# Altium footprint library SOP4.PcbLib: 1 footprints
Each footprint in its own frame and in the unit in brackets; x right, y up, seen from the top. Pads: shape width x height; smd on the part's side, far side on the other; paste and mask are expansions set on the pad; w line width, h text height; cw(c..) or ccw(c..) is an arc to the next point about the centre after c.
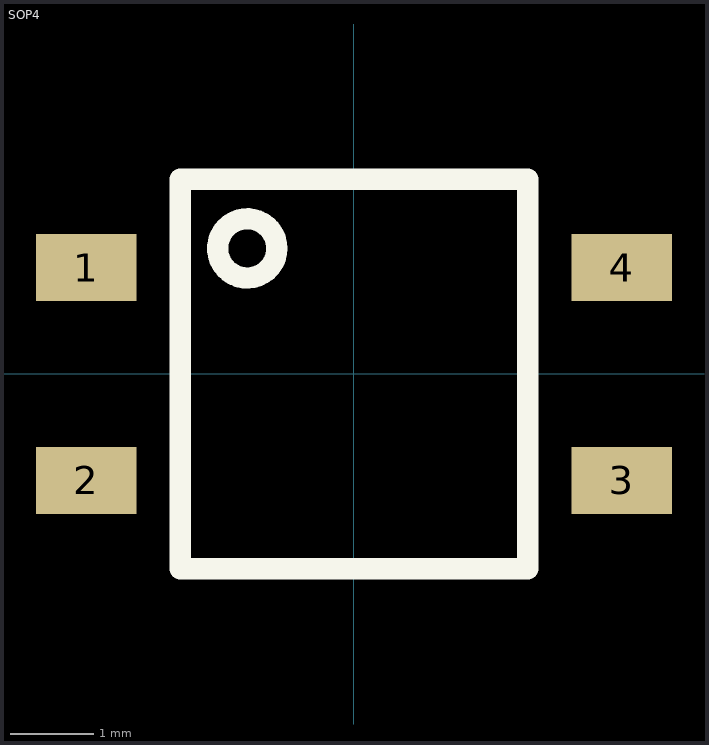
[diagram p0: the footprint, top view; thin cyan lines are the x and y axes]

## SOP4 [mm]
height 2.1
pads (4):
  rect 1.2x0.8 smd: 1(-3.2,1.27) 2(-3.2,-1.27) 3(3.2,-1.27) 4(3.2,1.27)
Top Overlay:
  circle w0.254: c-1.275,1.5 r0.354
  lines w0.254: -2.075,-2.325 -2.075,2.325 2.075,2.325 2.075,-2.325 -2.075,-2.325
3D body: height 2.02, standoff -0.02, extent -3.43,-2 3.43,2